# Altium schematic symbol library PWM_CONTROLLERS.SchLib: 7 symbols
Pins are listed as number, name and electrical type; pins without a type are passive.

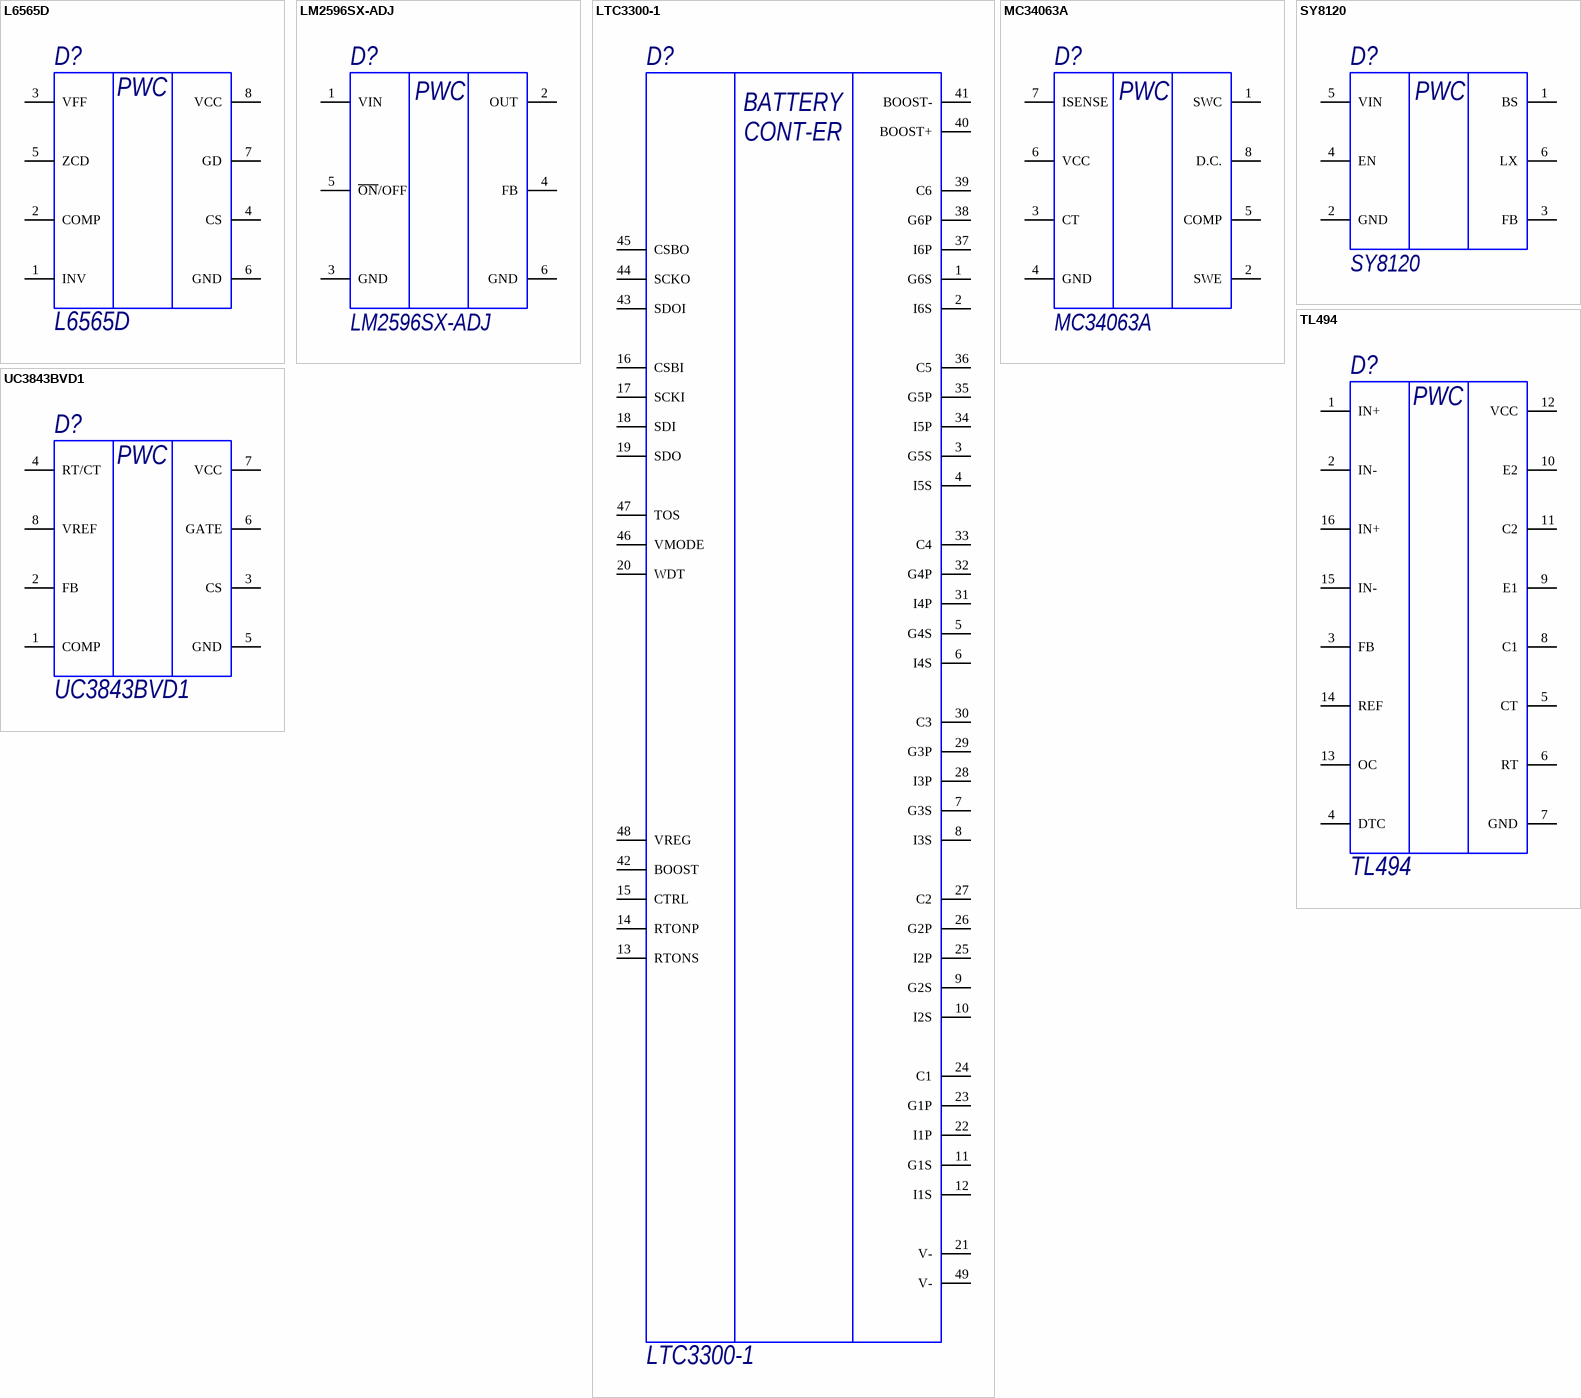
[diagram p0: symbols L6565D to UC3843BVD1]

## L6565D
designator D?
Микросхема ШИМ-контроллер; ComponentTypе: Микросхема PWM-контроллер; ComponentDescription: =ComponentTypе+', '+Comment+', '+Package
footprint 8-SOIC (SOIC, 8-Leads, Body 4,90x3,90mm, Pitch 1,27mm, IPC Medium Density)
pins: 1 INV, 2 COMP, 3 VFF, 4 CS, 5 ZCD, 6 GND, 7 GD, 8 VCC
1 alternate drawing of the same symbol
text: PWC

## LM2596SX-ADJ
designator D?
Микросхема ШИМ-контроллер; ComponentDescription: =ComponentTypе+', '+Comment+', '+Package; ComponentTypе: Микросхема ШИМ-контроллер
footprint TO-263-5
pins: 1 VIN, 2 OUT, 3 GND, 4 FB, 5 ~{ON}/OFF, 6 GND
1 alternate drawing of the same symbol
text: PWC

## LTC3300-1
designator D?
Микросхема контроллер батареи.; ComponentTypе: Микросхема PWM-контроллер; ComponentDescription: =ComponentTypе+', '+Comment+', '+Package
footprint LQFP-49
pins: 1 G6S, 2 I6S, 3 G5S, 4 I5S, 5 G4S, 6 I4S, 7 G3S, 8 I3S, 9 G2S, 10 I2S, 11 G1S, 12 I1S, 13 RTONS, 14 RTONP, 15 CTRL, 16 CSBI, 17 SCKI, 18 SDI, 19 SDO, 20 WDT, 21 V-, 22 I1P, 23 G1P, 24 C1, 25 I2P, 26 G2P, 27 C2, 28 I3P, 29 G3P, 30 C3, 31 I4P, 32 G4P, 33 C4, 34 I5P, 35 G5P, 36 C5, 37 I6P, 38 G6P, 39 C6, 40 BOOST+, 41 BOOST-, 42 BOOST, 43 SDOI, 44 SCKO, 45 CSBO, 46 VMODE, 47 TOS, 48 VREG, 49 V-
1 alternate drawing of the same symbol
text: BATTERY; CONT-ER

## MC34063A
designator D?
Микросхема ШИМ-контроллер; ComponentDescription: =ComponentTypе+', '+Comment+', '+Package; ComponentTypе: Микросхема ШИМ-контроллер
footprint 8-SOIC (SOIC, 8-Leads, Body 4,90x3,90mm, Pitch 1,27mm, IPC Medium Density)
pins: 1 SWC, 2 SWE, 3 CT, 4 GND, 5 COMP, 6 VCC, 7 ISENSE, 8 D.C.
text: PWC

## SY8120
designator D?
Микросхема ШИМ-контроллер; ComponentDescription: =ComponentTypе+', '+Comment+', '+Package; ComponentTypе: Микросхема ШИМ-контроллер
footprint SOT-23-6 (SOT23, 6-Leads, Body 2,90x2,30mm, Pitch 0,95mm, IPC Medium Density)
pins: 1 BS, 2 GND, 3 FB, 4 EN, 5 VIN, 6 LX
text: PWC

## TL494
designator D?
Микросхема ШИМ-контроллер; ComponentTypе: Микросхема PWM-контроллер; ComponentDescription: =ComponentTypе+', '+Comment+', '+Package
footprint 16-SOIC (SOIC, 16-Leads, Body 9,90x3,90mm, Pitch 1,27mm, IPC Medium Density)
pins: 1 IN+, 2 IN-, 3 FB, 4 DTC, 5 CT, 6 RT, 7 GND, 8 C1, 9 E1, 10 E2, 11 C2, 12 VCC, 13 OC, 14 REF, 15 IN-, 16 IN+
1 alternate drawing of the same symbol
text: PWC

## UC3843BVD1
designator D?
Микросхема ШИМ-контроллер; ComponentTypе: Микросхема PWM-контроллер; ComponentDescription: =ComponentTypе+', '+Comment+', '+Package
footprint 8-SOIC (SOIC, 8-Leads, Body 4,90x3,90mm, Pitch 1,27mm, IPC Medium Density)
pins: 1 COMP, 2 FB, 3 CS, 4 RT/CT, 5 GND, 6 GATE, 7 VCC, 8 VREF
1 alternate drawing of the same symbol
text: PWC